# EAGLE library part LT3465 (library di_ic)
1.2MHz/2.4MHz White LED Step-Up Converters with Built-In Schottky in ThinSOT
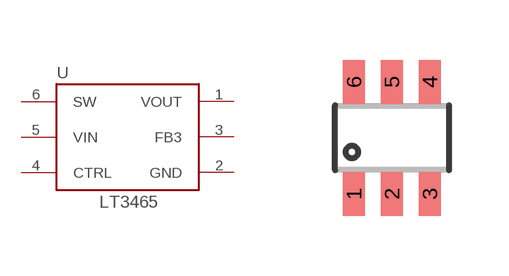
[diagram p16: symbol with the pads of SOT23-6; footprint SOT23-6]

Designator prefix -

## LT3465  [SOT23-6]
1  VOUT
2  GND
3  FB3
4  CTRL
5  VIN
6  SW

## Footprint SOT23-6 (pad centres in mm)
Small Outline Transistor
smd 0.55 x 1.1: 1 -0.95,-1.4; 2 0,-1.4; 3 0.95,-1.4; 4 0.95,1.4; 5 0,1.4; 6 -0.95,1.4